# Altium schematic symbol library LM1084IT-3.3_NOPB.SchLib: 1 symbol
Pins are listed as number, name and electrical type; pins without a type are passive.

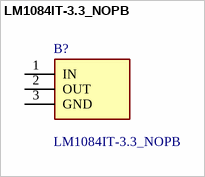
[diagram p0: symbol LM1084IT-3.3_NOPB]

## LM1084IT-3.3_NOPB
designator B?
Texas Instruments LM1084IT-3.3/NOPB, LDO Voltage Regulator, 5A, 3.3 V, 2.6  27 Vin 3-Pin, TO-220; Geometry.Height: 4.7mm; Mouser Part Number: 926-LM1084IT-3.3NOPB; Mouser Price/Stock: https://www.mouser.co.uk/ProductDetail/Texas-Instruments/LM1084IT-3.3-NOPB?qs=X1J7HmVL2ZH4e8i30AZoWw%3D%3D; Manufacturer_Name: Texas Instruments; Manufacturer_Part_Number: LM1084IT-3.3/NOPB; Datasheet Link: *
footprint TO254P470X1028X1955-3P
pins: 1 IN, 2 OUT, 3 GND